# Altium schematic symbol library PESD1CAN,215.SchLib: 1 symbol
Pins are listed as number, name and electrical type; pins without a type are passive.

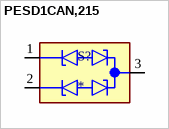
[diagram p0: symbol PESD1CAN,215]

## PESD1CAN,215
designator S?
<a href="https://pricing.snapeda.com/parts/PESD1CAN,215/Nexperia%20USA%20Inc./view-part?ref=eda">Check availability</a>; MF: {'manufacturer': u'Nexperia USA Inc.'}; Package: None; Price: None; Value: *; MP: PESD1CAN,215; Availability: Unavailable
footprint DIO_PESD1CAN,215
pins: 1 C1, 2 C2, 3 CC